# EAGLE library part 74ACT10D (library EW_IC_74_Logic)
3-input NAND. Category: Gates Manufacturer: Generic
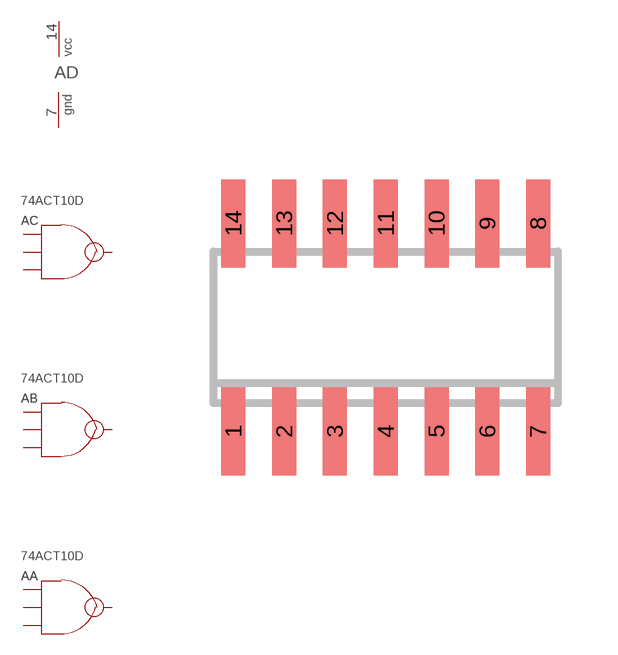
[diagram p44: symbol with the pads of SO14; footprint SO14]

Designator prefix A; gates A=NAND_3 B=NAND_3 C=NAND_3 D=PWRN

## 74ACT10D  [SO14]
1  A:A  pwr
2  A:B  pwr
3  B:A  pwr
4  B:B  pwr
5  B:C  pwr
6  B:Y  pwr
7  D:GND  pwr
8  C:Y  pwr
9  C:C  pwr
10  C:B  pwr
11  C:A  pwr
12  A:Y  pwr
13  A:C  pwr
14  D:VCC  pwr

## Footprint SO14 (pad centres in mm)
SMALL OUTLINE INTEGRATED CIRCUIT body 3.9 mm/JEDEC MS-012AC
smd 0.6 x 2.2: 1 -3.81,-2.6; 2 -2.54,-2.6; 3 -1.27,-2.6; 4 0,-2.6; 5 1.27,-2.6; 6 2.54,-2.6; 7 3.81,-2.6; 8 3.81,2.6; 9 2.54,2.6; 10 1.27,2.6; 11 0,2.6; 12 -1.27,2.6; 13 -2.54,2.6; 14 -3.81,2.6